# Altium footprint library REB215_XPRO_Extension_Board.PcbLib: 56 footprints (part 2 of 4)
Each footprint in its own frame and in the unit in brackets; x right, y up, seen from the top. Pads: shape width x height; smd on the part's side, far side on the other; paste and mask are expansions set on the pad; w line width, h text height; cw(c..) or ccw(c..) is an arc to the next point about the centre after c.
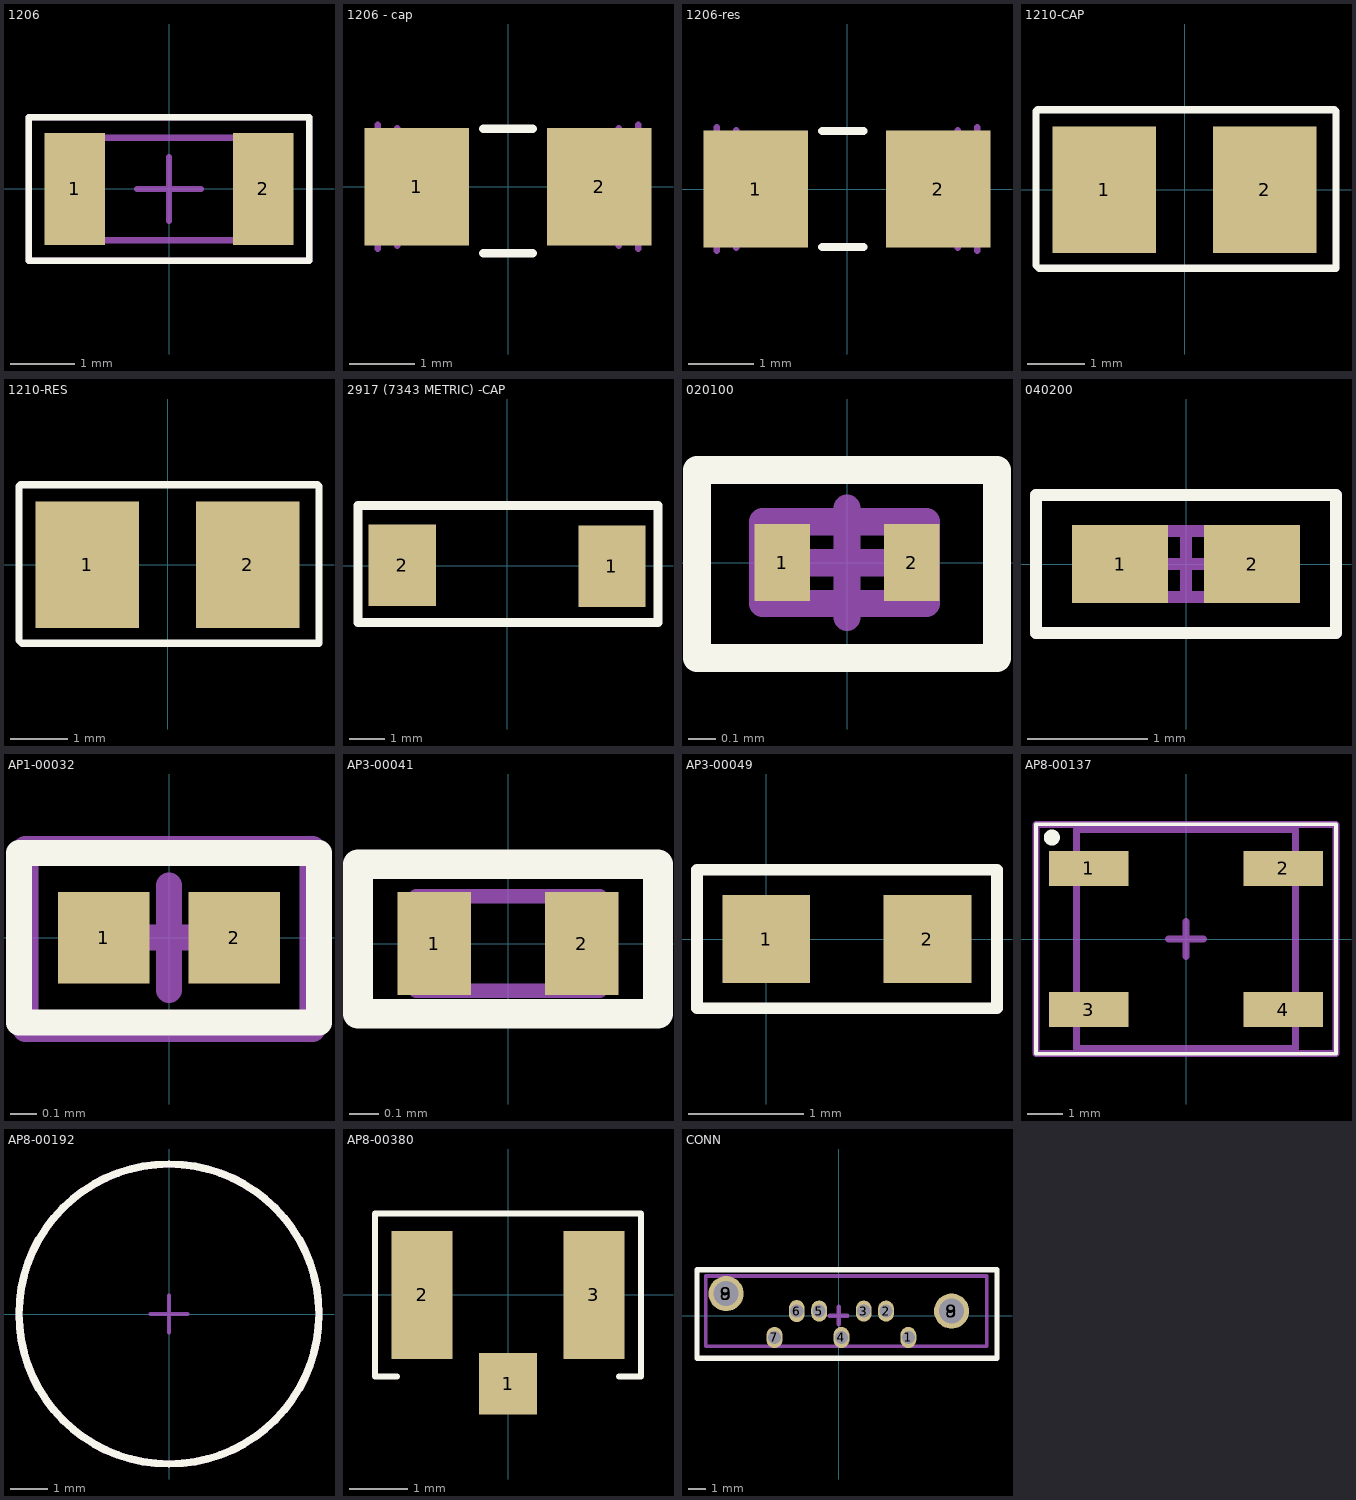
[diagram p1: the footprints below, top view; thin cyan lines are the x and y axes]

## 1206 [mm]
height 1.5
pads (2):
  rect 0.95x1.75 smd: 1(-1.475,0) 2(1.475,0)
Top Overlay:
  lines w0.1: -2.2,-1.125 -2.2,1.125 2.2,1.125 2.2,-1.125 -2.2,-1.125
Mechanical 13:
  lines w0.1: -1.6,-0.8 1.6,-0.8 1.6,0.8 -1.6,0.8 -1.6,-0.8
Mechanical 15:
  lines w0.1: -0.5,0 0.5,0 ; 0,-0.5 0,0.5 ; -2.2,-1.125 2.2,-1.125 2.2,1.125 -2.2,1.125 -2.2,-1.125
3D body "1206 SMD Capacitor.step": height 1, standoff 0, extent -1.6,-0.8 1.6,0.8

## 1206 - cap [mm] "Chip Capacitor, Body 3.2x1.6mm, IPC High Density"
height 1.3
pads (2):
  rect 1.6x1.8 smd: 1(-1.4,0) 2(1.4,0)
Top Overlay:
  lines w0.127: -0.381,-1.016 0.381,-1.016 ; -0.381,0.889 0.381,0.889
Mechanical 13:
  lines w0.1: -1.7,-0.9 -1.7,0.9 ; 1.7,-0.9 1.7,0.9
Mechanical 15:
  lines w0.1: -2,-0.95 -2,0.95 ; 2,-0.95 2,0.95
3D body "CAP1206.stp": height 1, standoff 0, extent -1.6,-0.8 1.6,0.8

## 1206-res [mm] "Chip Capacitor, Body 3.2x1.6mm, IPC High Density"
height 1.3
pads (2):
  rect 1.6x1.8 smd: 1(-1.4,0) 2(1.4,0)
Top Overlay:
  lines w0.127: -0.381,-0.889 0.254,-0.889 ; -0.381,0.889 0.254,0.889
Mechanical 13:
  lines w0.1: -1.7,-0.9 -1.7,0.9 ; 1.7,-0.9 1.7,0.9
Mechanical 15:
  lines w0.1: -2,-0.95 -2,0.95 ; 2,-0.95 2,0.95
3D body "RES1206.stp": height 0.55, standoff 0, extent -1.55,-0.772 1.55,0.78

## 1210-CAP [mm]
pads (2):
  rect 1.8x2.2 smd: 1(-1.4,0) 2(1.4,0)
Top Overlay:
  lines w0.127: -2.388,1.397 2.616,1.397 2.642,1.372 2.642,-1.372 -2.54,-1.372 -2.591,-1.321 -2.591,1.372 -2.565,1.397 -2.21,1.397
3D body "CAP1210.stp": height 0.92, standoff -0.02, extent -1.6,-1.377 1.6,1.123

## 1210-RES [mm]
pads (2):
  rect 1.8x2.2 smd: 1(-1.4,0) 2(1.4,0)
Top Overlay:
  lines w0.127: -2.388,1.397 2.616,1.397 2.642,1.372 2.642,-1.372 -2.54,-1.372 -2.591,-1.321 -2.591,1.372 -2.565,1.397 -2.21,1.397
3D body "RES2010.stp": height 0.55, standoff 0, extent -2.413,-1.143 2.487,1.257

## 2917 (7343 METRIC) -CAP [mm]
pads (2):
  rect 1.9x2.3 smd: 1(2.965,-0.013) 2(-2.965,0.013)
Top Overlay:
  lines w0.254: -4.216,-1.6 4.267,-1.6 4.267,1.702 -4.216,1.702 -4.216,-1.6
3D body "User Library-Tantalum Cap Case D.STEP": height 2.8, standoff 0, extent -3.392,-2.125 3.748,2.175

## 020100 [mm] "0201_SMD"
pads (2):
  rect 0.205x0.282 smd paste+0 mask+0.063: 1(-0.237,0) 2(0.237,0)
Top Overlay:
  lines w0.102: -0.55,-0.35 -0.55,0.34 0.55,0.34 0.55,-0.35 -0.55,-0.35
Mechanical 13:
  lines w0.1: -0.31,-0.15 0.29,-0.15 0.29,0.15 -0.31,0.15 -0.31,-0.15
Mechanical 15:
  lines w0.1: -0.2,0 0.2,0 ; 0,-0.2 0,0.2 ; -0.55,-0.35 0.55,-0.35 0.55,0.34 -0.55,0.34 -0.55,-0.35
3D body "User Library-SMD RESISTOR-10201.STEP": height 0.12, standoff -0.12, extent -0.3,-0.15 0.3,0.15

## 040200 [mm] "Standard 0402 SMD resistor footprint"
height 0.4
pads (2):
  rect 0.8x0.65 smd: 1(-0.55,0) 2(0.55,0)
Top Overlay:
  lines w0.1: -1.25,-0.575 -1.25,0.575 1.25,0.575 1.25,-0.575 -1.25,-0.575
Mechanical 13:
  lines w0.1: -0.55,-0.275 0.55,-0.275 0.55,0.275 -0.55,0.275 -0.55,-0.275
Mechanical 15:
  lines w0.1: -0.275,0 0.275,0 ; 0,-0.275 0,0.275 ; -1.25,-0.575 1.25,-0.575 1.25,0.575 -1.25,0.575 -1.25,-0.575
3D body "0402 SMD Resistor.step": height 0.2, standoff 0, extent -0.5,-0.3 0.5,0.3

## AP1-00032 [mm]
pads (2):
  rect 0.35x0.35 smd paste-25.4 mask-25.4: 1(-0.25,0) 2(0.25,0)
Top Overlay:
  lines w0.1: -0.575,-0.325 0.575,-0.325 0.575,0.325 -0.575,0.325 -0.575,-0.325
Top Paste:
  region: 0.125,-0.125 0.375,-0.125 0.375,0.125 0.125,0.125
  region: -0.375,-0.125 -0.125,-0.125 -0.125,0.125 -0.375,0.125
Top Solder:
  region: 0.05,-0.2 0.45,-0.2 0.45,0.2 0.05,0.2
  region: -0.45,-0.2 -0.05,-0.2 -0.05,0.2 -0.45,0.2
Mechanical 15:
  lines w0.1: -0.2,0 0.2,0 ; 0,-0.2 0,0.2 ; -0.55,-0.35 -0.55,0.34 0.55,0.34 0.55,-0.35 -0.55,-0.35
3D body "User Library-cap_0201.STEP": height 0.3, standoff 0, extent -0.31,-0.15 0.29,0.15

## AP3-00041 [mm]
height 0.35
pads (2):
  rect 0.25x0.35 smd: 1(-0.25,0) 2(0.25,0)
Top Overlay:
  lines w0.1: -0.508,-0.238 -0.508,0.269 0.508,0.269 0.508,-0.238 -0.508,-0.238
Top Paste:
  region: -0.375,-0.125 -0.125,-0.125 -0.125,0.125 -0.375,0.125
  region: 0.125,-0.125 0.375,-0.125 0.375,0.125 0.125,0.125
Top Solder:
  region: -0.45,-0.2 -0.05,-0.2 -0.05,0.2 -0.45,0.2
  region: 0.05,-0.2 0.45,-0.2 0.45,0.2 0.05,0.2
Mechanical 15:
  lines w0.05: -0.31,-0.16 0.31,-0.16 0.31,0.16 -0.31,0.16 -0.31,-0.16
3D body: height 0.35, standoff 0, extent -0.3,-0.127 0.3,0.15

## AP3-00049 [mil]
height 425.2
pads (2):
  rect 30x30 smd: 1(0,0) 2(55,0)
Top Overlay:
  lines w3.94: -23.62,-23.62 78.74,-23.62 78.74,23.62 -23.62,23.62 -23.62,-23.62
3D body "UserLibrary-ChipInductor_0603.step": height 19.68, standoff 0, extent 6.89,-11.81 46.26,11.81

## AP8-00137 [mm]
height 5.1
pads (4):
  rect 2.25x1 smd: 1(-2.75,2) 2(2.75,2) 3(-2.75,-2) 4(2.75,-2)
Top Overlay:
  circle w0.254: c-3.8,2.875 r0.1
  lines w0.1: -4.25,-3.25 4.25,-3.25 4.25,3.25 -4.25,3.25 -4.25,-3.25
Mechanical 13:
  lines w0.2: -3.1,-3.1 -3.1,3.1 3.1,3.1 3.1,-3.1 -3.1,-3.1
Mechanical 15:
  lines w0.2: -0.5,0 0.5,0 ; 0,-0.5 0,0.5 ; -4.25,-3.25 -4.25,3.25 4.25,3.25 4.25,-3.25 -4.25,-3.25
3D body: height 3.4, standoff 2.5, extent -1.45,-1.45 1.439,1.444
3D body: height 2.5, standoff 0.1, extent -3.1,-3.1 3.1,3.1

## AP8-00192 [mm]
height 2.8
Top Overlay:
  circle w0.2: c0,0 r4
Mechanical 15:
  circle w0.2: c0,0 r4
  lines w0.1: -0.5,0 0.5,0 ; 0,-0.5 0,0.5
3D body "SJxx76.stp": height 2.79, standoff 0, extent -3.995,-3.999 4.001,3.999

## AP8-00380 [mm]
height 10.8
pads (3):
  rect 1x1.05 smd: 1(0,-1.525)
  rect 1.05x2.2 smd: 2(-1.475,0) 3(1.475,0)
Top Overlay:
  lines w0.102: -1.905,-1.397 -2.286,-1.397 -2.286,1.397 2.286,1.397 2.286,-1.397 1.905,-1.397
3D body "U.FL-R-SMT-1.stp": height 1.23, standoff -0.02, extent -1.475,-1.55 1.525,1.55

## AP8-00525 [mm] "Jumper 2.54mm, 3D"
height 6
3D body "jumper_akspt_z-black.stp": height 8.57, standoff 2.6, extent -3.933,3.447 1.047,5.887

## CONN [mm]
height 4
pads (18):
  oval 0.9x1.2 hole 0.75: 1(3.955,-1.25) 2(2.685,0.25) 3(1.415,0.25) 4(0.145,-1.25) 5(-1.125,0.25) 7(-3.665,-1.25)
  oval 0.9x1.2 on Top Paste: 1(3.955,-1.25) 2(2.685,0.25) 3(1.415,0.25) 4(0.145,-1.25) 5(-1.125,0.25) 6(-2.395,0.25) 7(-3.665,-1.25)
  oval 0.9x1.25 hole 0.75: 6(-2.395,0.25)
  round 2 hole 1.425: 8(-6.415,1.25) 9(6.415,0.25)
  round 2 on Top Paste: 8(6.415,0.25) 9(-6.415,1.25)
Top Overlay:
  lines w0.3: -8.075,-2.425 9,-2.425 9,2.6 -7.9,2.6 -8.075,2.6 -8.075,-2.425
Mechanical 15:
  lines w0.2: 8.4,2.25 -7.585,2.25 -7.585,-1.75 8.415,-1.75 8.415,2.25
  lines w0.254: -0.51,0 0.49,0 ; -0.01,-0.5 -0.01,0.5
3D body "674911030.stp": height 8.2, standoff -2.6, extent -7.575,-1.75 8.425,2.25